# Altium schematic symbol library TPS54339-SO8.SchLib: 1 symbol
Pins are listed as number, name and electrical type; pins without a type are passive.

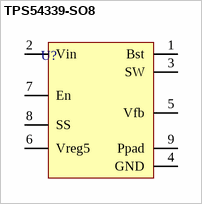
[diagram p0: symbol TPS54339-SO8]

## TPS54339-SO8
designator U?  (value not drawn)
pins: 1 Bst, 2 Vin, 3 SW, 4 GND, 5 Vfb, 6 Vreg5, 7 En, 8 SS, 9 Ppad